# Altium footprint library G51M08-P05QJ00-A080.PcbLib: 1 footprints
Each footprint in its own frame and in the unit in brackets; x right, y up, seen from the top. Pads: shape width x height; smd on the part's side, far side on the other; paste and mask are expansions set on the pad; w line width, h text height; cw(c..) or ccw(c..) is an arc to the next point about the centre after c.
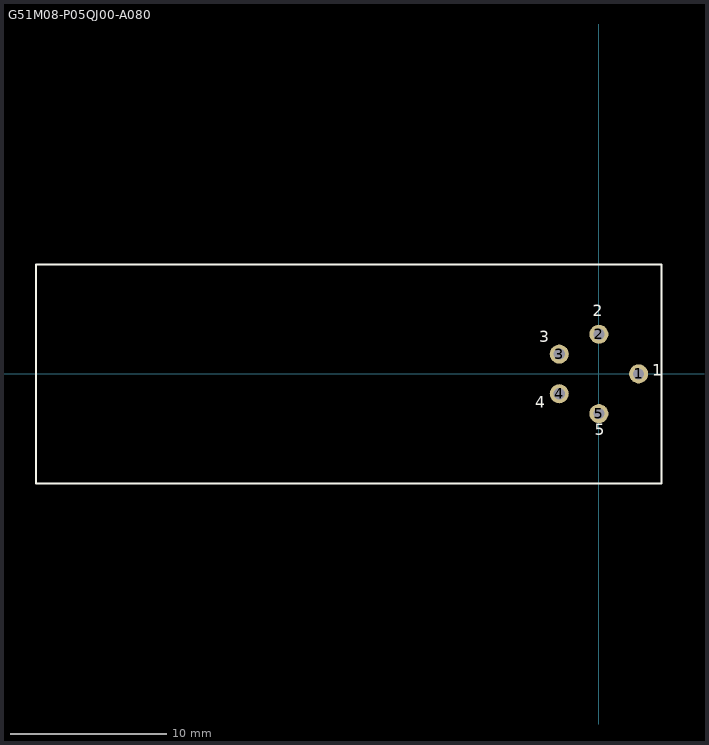
[diagram p0: the footprint, top view; thin cyan lines are the x and y axes]

## G51M08-P05QJ00-A080 [mil]
pads (5):
  round 48 hole 28: 1(100,0) 2(0,100) 3(-100,50) 4(-100,-50) 5(0,-100)
Top Overlay:
  lines w5: -1419,-276 -1419,275.59 157.56,275.59 157.56,-276 -1419,-276
  text "3" at -150,70 h49.6
  text "1" at 135,-15 h49.6
  text "5" at -10,-165 h49.6
  text "2" at -15,135 h49.6
  text "4" at -160,-95 h49.6
3D body "pkg_m0_5nl_vn.stp": height 937.51, standoff -235.72, extent -997.56,-368.35 157.56,360